# EAGLE library part MAGJACK-POE (library BaseApp)
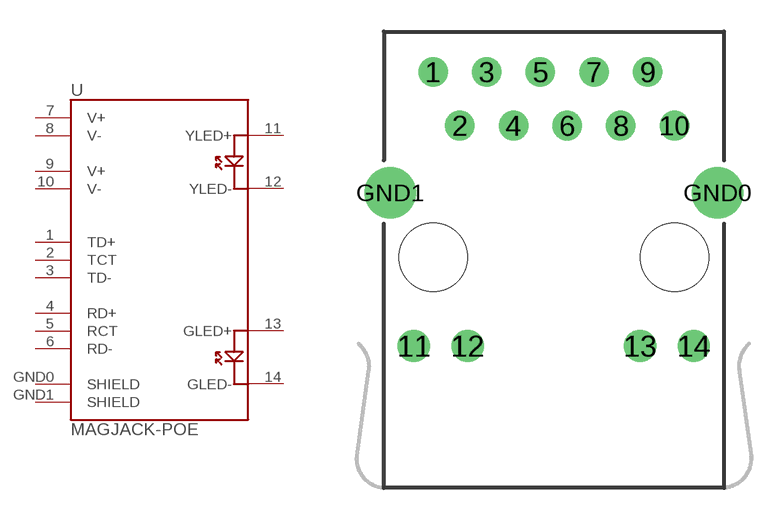
[diagram p140: symbol with the pads of MAGJACK-POE; footprint MAGJACK-POE]

Designator prefix -

## MAGJACK-POE  [MAGJACK-POE]
1  TD+
2  TCT
3  TD-
4  RD+
5  RCT
6  RD-
7  V+
8  V-
9  V+
10  V-
11  YLED+
12  YLED-
13  GLED+
14  GLED-
GND0  SHIELD
GND1  SHIELD

## Footprint MAGJACK-POE (pad centres in mm)
drill 0.89: 1 -6.35,2.54; 2 -5.08,0; 3 -3.81,2.54; 4 -2.54,0; 5 -1.27,2.54; 6 0,0; 7 1.27,2.54; 8 2.54,0; 9 3.81,2.54; 10 5.08,0
drill 1.02: 11 -7.255,-10.43; 12 -4.715,-10.43; 13 3.455,-10.43; 14 5.995,-10.43
drill 1.63: GND0 7.115,-3.18; GND1 -8.375,-3.18
hole 3.25 at 5.085,-6.23
hole 3.25 at -6.345,-6.23